# Altium schematic symbol library 1N5824.SchLib: 1 symbol
Pins are listed as number, name and electrical type; pins without a type are passive.

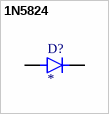
[diagram p0: symbol 1N5824]

## 1N5824
designator D?
Diode Schottky 30V 5A Through Hole Axial; MP: 1N5824; MF: Microsemi Corporation; Value: *; SnapEDA_Link: https://www.snapeda.com/parts/1N5824/Microsemi%20Corporation/view-part/49055/?ref=snap; Availability: Unavailable; Price: None; Package: Axial Microsemi
footprint DIOAD1898W129L762D1143
pins: A, C K